# EAGLE library part P1AM-PROTO-BLANK-SMD_HEADERS (library P1AM)
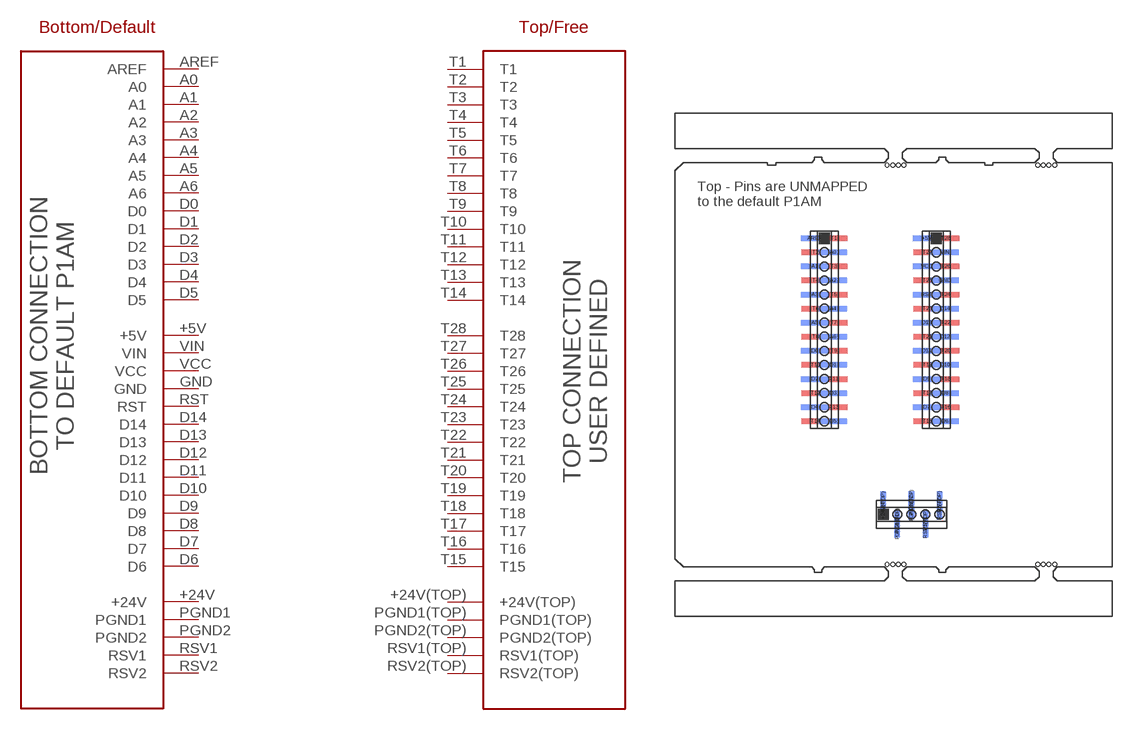
[diagram p1: symbol with the pads of P1AM-PROTO-BLANK-SMD_HEADERS; footprint P1AM-PROTO-BLANK-SMD_HEADERS]

Designator prefix -

## P1AM-PROTO-BLANK-SMD_HEADERS  [P1AM-PROTO-BLANK-SMD_HEADERS]
+5V  +5V
+24V  +24V
+24V(TOP)  +24V(TOP)
A0  A0
A1  A1
A2  A2
A3  A3
A4  A4
A5  A5
A6  A6
AREF  AREF
D0  D0
D1  D1
D2  D2
D3  D3
D4  D4
D5  D5
D6  D6
D7  D7
D8  D8
D9  D9
D10  D10
D11  D11
D12  D12
D13  D13
D14  D14
GND  GND
PGND1  PGND1
PGND1(TOP)  PGND1(TOP)
PGND2  PGND2
PGND2(TOP)  PGND2(TOP)
RST  RST
RSV1  RSV1
RSV1(TOP)  RSV1(TOP)
RSV2  RSV2
RSV2(TOP)  RSV2(TOP)
T1  T1
T2  T2
T3  T3
T4  T4
T5  T5
T6  T6
T7  T7
T8  T8
T9  T9
T10  T10
T11  T11
T12  T12
T13  T13
T14  T14
T15  T15
T16  T16
T17  T17
T18  T18
T19  T19
T20  T20
T21  T21
T22  T22
T23  T23
T24  T24
T25  T25
T26  T26
T27  T27
T28  T28
VCC  VCC
VIN  VIN

## Footprint P1AM-PROTO-BLANK-SMD_HEADERS (pad centres in mm)
smd 5 x 1 bottom: +5V 45.375,68.21; A0 28.495,65.67; A1 25.185,63.13; A2 28.495,60.59; A3 25.185,58.05; A4 28.495,55.51; A5 25.185,52.97; A6 28.495,50.43; AREF 25.185,68.21; D0 25.185,47.89; D1 28.495,45.35; D2 25.185,42.81; D3 28.495,40.27; D4 25.185,37.73; D5 28.495,35.19; D6 48.685,35.19; D7 45.375,37.73; D8 48.685,40.27; D9 45.375,42.81; D10 48.685,45.35; D11 45.375,47.89; D12 48.685,50.43; D13 45.375,52.97; D14 48.685,55.51; GND 48.685,60.59; RST 45.375,58.05; VCC 45.375,63.13; VIN 48.685,65.67
smd 1 x 5 bottom: +24V 37.56,20.015; PGND1 40.1,16.705; PGND2 42.64,20.015; RSV1 45.18,16.705; RSV2 47.72,20.015
smd 1 x 5: +24V(TOP) 37.57,20.025; PGND1(TOP) 40.11,16.715; PGND2(TOP) 42.65,20.025; RSV1(TOP) 45.19,16.715; RSV2(TOP) 47.73,20.025
smd 5 x 1: T1 28.625,68.21; T2 25.315,65.67; T3 28.625,63.13; T4 25.315,60.59; T5 28.625,58.05; T6 25.315,55.51; T7 28.625,52.97; T8 25.315,50.43; T9 28.625,47.89; T10 25.315,45.35; T11 28.625,42.81; T12 25.315,40.27; T13 28.625,37.73; T14 25.315,35.19; T15 45.505,35.19; T16 48.815,37.73; T17 45.505,40.27; T18 48.815,42.81; T19 45.505,45.35; T20 48.815,47.89; T21 45.505,50.43; T22 48.815,52.97; T23 45.505,55.51; T24 48.815,58.05; T25 45.505,60.59; T26 48.815,63.13; T27 45.505,65.67; T28 48.815,68.21